# EAGLE library part AZ4558CMTR-G1 (library tide_clock)
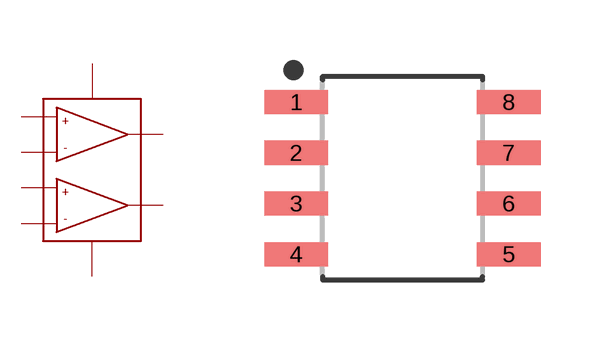
[diagram p8: symbol with the pads of SOIC127P600X175-8; footprint SOIC127P600X175-8]

Designator prefix -

## AZ4558CMTR-G1  [SOIC127P600X175-8]
1  OUT1  out
2  IN1-  in
3  IN1+  in
4  VEE
5  IN2+  in
6  IN2-  in
7  OUT2  out
8  VCC

## Footprint SOIC127P600X175-8 (pad centres in mm)
8-SOIC, 1.27 mm pitch, 6.00 mm span, 4.90 X 3.90 X 1.75 mm body 8-pin SOIC package with 1.27 mm pitch, 6.00 mm span with body size 4.90 X 3.90 X 1.75 mm
smd 1.597 x 0.602: 1 -2.659,1.905; 2 -2.659,0.635; 3 -2.659,-0.635; 4 -2.659,-1.905; 5 2.659,-1.905; 6 2.659,-0.635; 7 2.659,0.635; 8 2.659,1.905